# Altium schematic symbol library TPD2S017.Schlib: 1 symbol
Pins are listed as number, name and electrical type; pins without a type are passive.

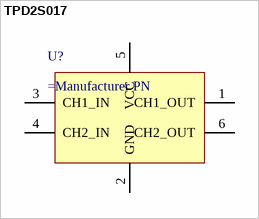
[diagram p0: symbol TPD2S017]

## TPD2S017
designator U?
ESD Protection IC
pins: 1 CH1_OUT, 2 GND, 3 CH1_IN, 4 CH2_IN, 5 VCC, 6 CH2_OUT